# Altium footprint library 1EPINSKER.PcbLib: 11 footprints
Each footprint in its own frame and in the unit in brackets; x right, y up, seen from the top. Pads: shape width x height; smd on the part's side, far side on the other; paste and mask are expansions set on the pad; w line width, h text height; cw(c..) or ccw(c..) is an arc to the next point about the centre after c.
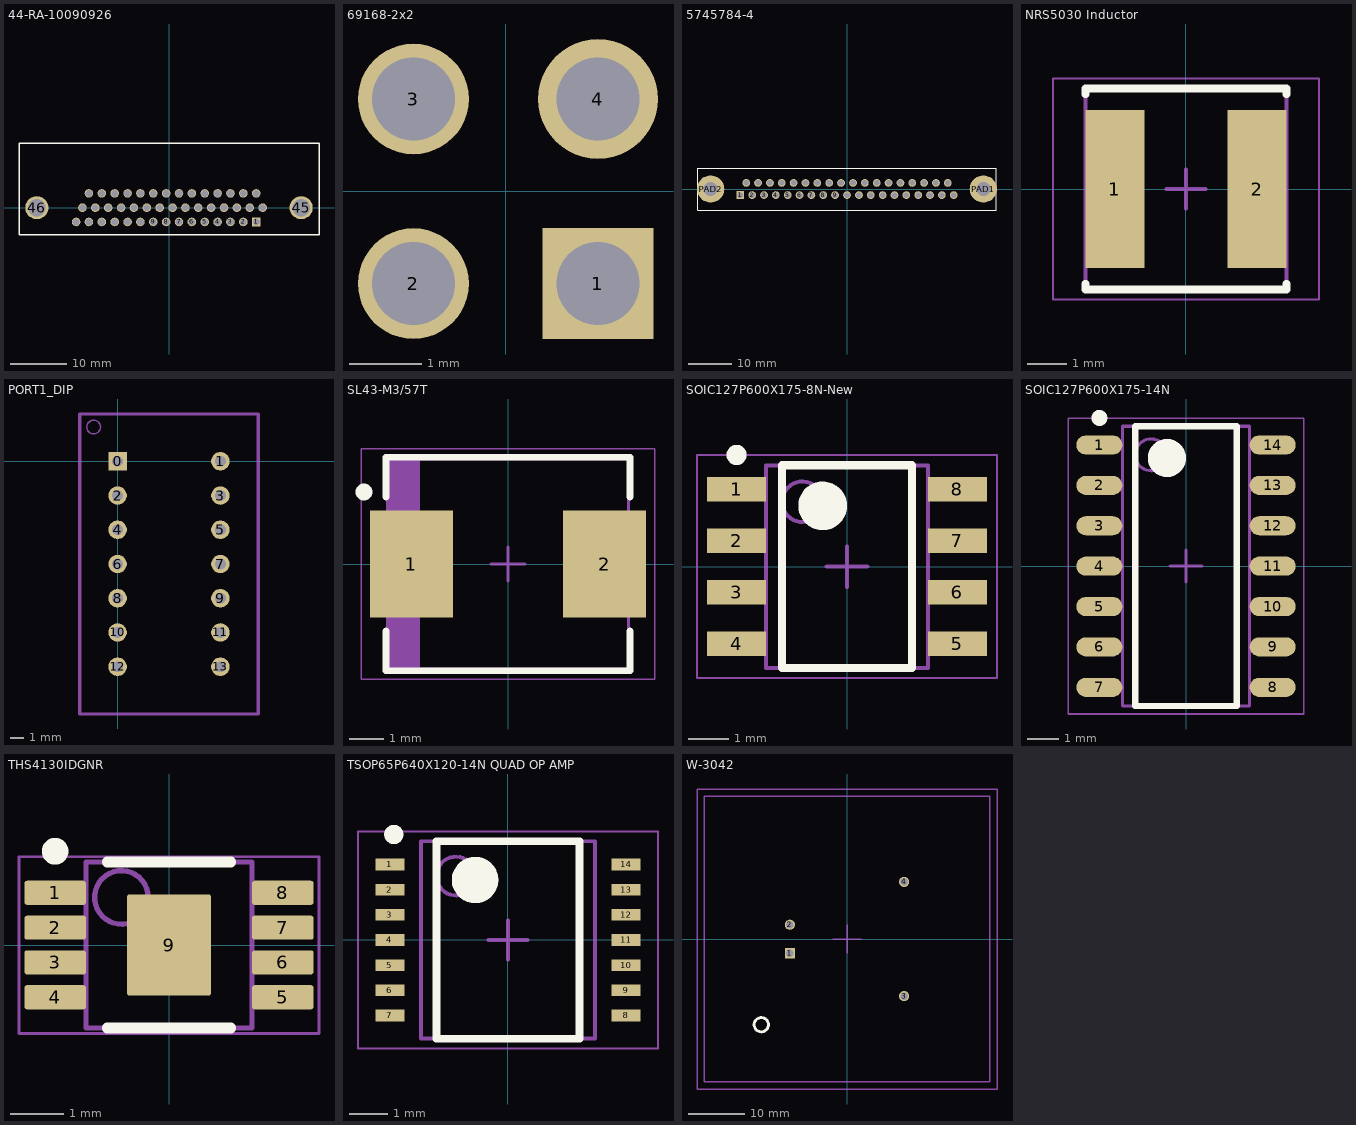
[diagram p0: the footprints below, top view; thin cyan lines are the x and y axes]

## 44-RA-10090926 [mm]
pads (46):
  rect 1.524x1.524 hole 1.2: 1(15.52,-2.54)
  round 1.524 hole 1.2: 2(13.23,-2.54) 3(10.94,-2.54) 4(8.65,-2.54) 5(6.36,-2.54) 6(4.07,-2.54) 7(1.78,-2.54) 8(-0.51,-2.54) 9(-2.8,-2.54) 10(-5.09,-2.54) 11(-7.38,-2.54) 12(-9.67,-2.54) 13(-11.96,-2.54) 14(-14.25,-2.54) 15(-16.54,-2.54) 16(16.66,0) 17(14.37,0) 18(12.08,0) 19(9.79,0) 20(7.5,0) 21(5.21,0) 22(2.92,0) 23(0.63,0) 24(-1.66,0) 25(-3.95,0) 26(-6.24,0) 27(-8.53,0) 28(-10.82,0) 29(-13.11,0) 30(-15.4,0) 31(15.52,2.54) 32(13.23,2.54) 33(10.94,2.54) 34(8.65,2.54) 35(6.36,2.54) 36(4.07,2.54) 37(1.78,2.54) 38(-0.51,2.54) 39(-2.8,2.54) 40(-5.09,2.54) 41(-7.38,2.54) 42(-9.67,2.54) 43(-11.96,2.54) 44(-14.25,2.54)
  round 4.1 hole 3.15: 45(23.52,0) 46(-23.52,0)
Top Overlay:
  lines w0.254: -26.695,-4.77 26.695,-4.77 26.695,11.43 -26.695,11.43 -26.695,-4.77
3D body: height 12.55, standoff -4, extent -26.885,-4.602 26.775,17.098

## 69168-2x2 [mil]
pads (4):
  rect 60x60 hole 45: 1(50,-50)
  round 60 hole 45: 2(-50,-50) 3(-50,50)
  round 65 hole 45: 4(50,50)

## 5745784-4 [mil]
pads (39):
  rect 71x71 hole 51: 1(-979,-53)
  round 71 hole 51: 2(-870.4,-53) 3(-761.8,-53) 4(-653.2,-53) 5(-544.6,-53) 6(-436,-53) 7(-327.4,-53) 8(-218.8,-53) 9(-110.2,-53) 10(-1,-53) 11(108.5,-53) 12(217.1,-53) 13(325.7,-53) 14(434.3,-53) 15(542.9,-53) 16(651.5,-53) 17(760.1,-53) 18(868.7,-53) 19(977.3,-53) 20(-924.7,59) 21(-816.1,59) 22(-707.5,59) 23(-598.9,59) 24(-490.3,59) 25(-381.7,59) 26(-273.1,59) 27(-164.5,59) 28(-55.9,59) 29(54.2,59) 30(162.8,59) 31(271.4,59) 32(380,59) 33(488.6,59) 34(597.2,59) 35(705.8,59) 36(814.4,59) 37(923,59)
  round 250 hole 128: PAD1(1249,3) PAD2(-1251,3)
Top Overlay:
  lines w10: -1369.5,-189.5 -1369.5,195.5 1367.5,195.5 1367.5,-189.5 -1369.5,-189.5
Bottom Overlay:
  text "37" at 1013,58 h60
  text "20" at -1132,64 h60
  text "19" at 1015,-153 h60
  text "1" at -1107,-158 h60
3D body: height 509, standoff 0, extent -1381,-187 1359,193
3D body: height 419, standoff 90, extent -1091,203 1090,553
3D body: height 319.5, standoff 189.5, extent -1301,205 -1171,441
3D body: height 319.5, standoff 189.5, extent 1159,205 1289,441

## NRS5030 Inductor [mm] "Precision Wire Wound Inductor, 2-Leads, Body 4.90x4.90mm, IPC Medium Density"
height 3.1
pads (2):
  rect 1.5x4 smd: 1(-1.8,0) 2(1.8,0)
Top Overlay:
  lines w0.2: -2.55,-2.4 -2.55,-2.55 2.55,-2.55 2.55,-2.4 ; -2.55,2.4 -2.55,2.55 2.55,2.55 2.55,2.4
Mechanical 13:
  lines w0.1: -2.55,-2.55 2.55,-2.55 2.55,2.55 -2.55,2.55 -2.55,-2.55
Mechanical 15:
  lines w0.05: -3.375,-2.8 3.375,-2.8 3.375,2.8 -3.375,2.8 -3.375,-2.8
  lines w0.1: -0.5,0 0.5,0 ; 0,-0.5 0,0.5
3D body: height 3.1, standoff 0, extent -2.55,-2.55 2.55,2.55

## PORT1_DIP [mil]
pads (14):
  rect 54x54 hole 31.5: 0(0,0)
  round 54 hole 31.5: 1(300,0) 2(0,-100) 3(300,-100) 4(0,-200) 5(300,-200) 6(0,-300) 7(300,-300) 8(0,-400) 9(300,-400) 10(0,-500) 11(300,-500) 12(0,-600) 13(300,-600)
Mechanical 1:
  circle w3.94: c-70,100 r20
  lines w10: -110,-738 410,-738 410,138 -110,138 -110,-738

## SL43-M3/57T [mm] "Molded Diode, 2-Leads, Body 6.85x5.90mm, IPC Medium Density"
height 2.6
pads (2):
  rect 2.45x3.15 smd: 1(-2.85,0) 2(2.85,0)
Top Overlay:
  circle w0.25: c-4.25,2.125 r0.125
  lines w0.2: -3.6,-1.975 -3.6,-3.15 3.6,-3.15 3.6,-1.975 ; -3.6,1.975 -3.6,3.15 3.6,3.15 3.6,1.975
Mechanical 13:
  rectangle: -3.555,-3.11 -2.599,3.11
  lines w0.1: -3.555,-3.11 3.555,-3.11 3.555,3.11 -3.555,3.11 -3.555,-3.11
Mechanical 15:
  lines w0.05: -4.325,-3.4 4.325,-3.4 4.325,3.4 -4.325,3.4 -4.325,-3.4
  lines w0.1: -0.5,0 0.5,0 ; 0,-0.5 0,0.5
3D body: height 2.6, standoff 0, extent -3.555,-3.11 3.555,3.11

## SOIC127P600X175-8N-New [mm] "SOIC, 8-Leads, Body 4.90x3.90mm, Pitch 1.27mm, IPC Medium Density"
height 1.75
pads (8):
  rect 1.45x0.6 smd: 1(-2.725,1.905) 2(-2.725,0.635) 3(-2.725,-0.635) 4(-2.725,-1.905) 5(2.725,-1.905) 6(2.725,-0.635) 7(2.725,0.635) 8(2.725,1.905)
Top Overlay:
  circle w0.6: c-0.6,1.5 r0.3
  circle w0.25: c-2.725,2.755 r0.125
  lines w0.2: -1.6,-2.5 1.6,-2.5 1.6,2.5 -1.6,2.5 -1.6,-2.5
Mechanical 13:
  circle w0.1: c-1.1,1.6 r0.5
  lines w0.1: -2,-2.5 2,-2.5 2,2.5 -2,2.5 -2,-2.5
Mechanical 15:
  lines w0.05: -3.7,-2.75 3.7,-2.75 3.7,2.75 -3.7,2.75 -3.7,-2.75
  lines w0.1: -0.5,0 0.5,0 ; 0,-0.5 0,0.5
3D body: height 1.75, standoff 0.25, extent -2,-2.5 2,2.5

## SOIC127P600X175-14N [mm] "SOIC, 14-Leads, Body 8.65x3.90mm, Pitch 1.27mm, IPC Medium Density"
height 1.75
pads (14):
  oval 1.45x0.6 smd: 1(-2.725,3.81) 2(-2.725,2.54) 3(-2.725,1.27) 4(-2.725,0) 5(-2.725,-1.27) 6(-2.725,-2.54) 7(-2.725,-3.81) 8(2.725,-3.81) 9(2.725,-2.54) 10(2.725,-1.27) 11(2.725,0) 12(2.725,1.27) 13(2.725,2.54) 14(2.725,3.81)
Top Overlay:
  circle w0.6: c-0.6,3.4 r0.3
  circle w0.25: c-2.725,4.66 r0.125
  lines w0.2: -1.6,-4.4 1.6,-4.4 1.6,4.4 -1.6,4.4 -1.6,-4.4
Mechanical 13:
  circle w0.1: c-1.1,3.5 r0.5
  lines w0.1: -2,-4.4 2,-4.4 2,4.4 -2,4.4 -2,-4.4
Mechanical 15:
  lines w0.05: -3.7,-4.65 3.7,-4.65 3.7,4.65 -3.7,4.65 -3.7,-4.65
  lines w0.1: -0.5,0 0.5,0 ; 0,-0.5 0,0.5
3D body: height 1.75, standoff 0.1, extent -2,-4.4 2,4.4

## THS4130IDGNR [mm]
pads (9):
  rrect22% 1.15x0.45 smd: 1(-2.125,0.975) 2(-2.125,0.325) 3(-2.125,-0.325) 4(-2.125,-0.975) 5(2.125,-0.975) 6(2.125,-0.325) 7(2.125,0.325) 8(2.125,0.975)
  rrect6% 1.57x1.89 smd: 9(0,0)
Top Overlay:
  circle w0.25: c-2.125,1.75 r0.125
  lines w0.2: -1.15,-1.55 1.15,-1.55 ; -1.15,1.55 1.15,1.55
Mechanical 1:
  text ".Designator" at -1.397,-0.381 h0.7
Mechanical 13:
  circle w0.1: c-0.889,0.889 r0.5
  lines w0.1: -1.55,-1.55 1.55,-1.55 1.55,1.55 -1.55,1.55 -1.55,-1.55
Mechanical 15:
  lines w0.05: -2.8,-1.65 2.8,-1.65 2.8,1.65 -2.8,1.65 -2.8,-1.65
  lines w0.1: -0.5,0 0.5,0 ; 0,-0.5 0,0.5
3D body "MUY08A_ASM.stp": height 0.94, standoff -0.02, extent -2.451,-1.499 2.451,1.499

## TSOP65P640X120-14N QUAD OP AMP [mm] "TSOP, 14-Leads, Body 5.00x4.40mm, Pitch 0.65mm, IPC Medium Density"
height 1.2
pads (14):
  rect 0.75x0.3 smd: 1(-3.05,1.95) 2(-3.05,1.3) 3(-3.05,0.65) 4(-3.05,0) 5(-3.05,-0.65) 6(-3.05,-1.3) 7(-3.05,-1.95) 8(3.05,-1.95) 9(3.05,-1.3) 10(3.05,-0.65) 11(3.05,0) 12(3.05,0.65) 13(3.05,1.3) 14(3.05,1.95)
Top Overlay:
  circle w0.6: c-0.85,1.55 r0.3
  circle w0.25: c-2.95,2.725 r0.125
  lines w0.2: -1.85,-2.55 1.85,-2.55 1.85,2.55 -1.85,2.55 -1.85,-2.55
Mechanical 13:
  circle w0.1: c-1.35,1.65 r0.5
  lines w0.1: -2.25,-2.55 2.25,-2.55 2.25,2.55 -2.25,2.55 -2.25,-2.55
Mechanical 15:
  lines w0.05: -3.875,-2.8 3.875,-2.8 3.875,2.8 -3.875,2.8 -3.875,-2.8
  lines w0.1: -0.5,0 0.5,0 ; 0,-0.5 0,0.5
3D body: height 1.2, standoff 0.1, extent -2.25,-2.55 2.25,2.55

## W-3042 [mil]
height 511.81
pads (4):
  rect 71x71 hole 51: 1(-400,-100)
  round 71 hole 51: 2(-400,100) 3(400,-400) 4(400,400)
Top Overlay:
  lines w20: -550,-599.67 cw(c-600,-600) -550,-599.37
Mechanical 13:
  lines w10: -1000,-1000 1000,-1000 1000,1000 -1000,1000 -1000,-1000
Mechanical 15:
  lines w10: -100,0 0,0 ; 0,-100 0,0 ; 0,100 0,0 ; 100,0 0,0 ; -1050,-1050 -1050,1050 1050,1050 1050,-1050 -1050,-1050
3D body: height 500, standoff 0, extent -1000,-1000 1000,1000